# Altium footprint library Board2Wire Components - 02.02.23 - 18.32.PcbLib: 1 footprints
Each footprint in its own frame and in the unit in brackets; x right, y up, seen from the top. Pads: shape width x height; smd on the part's side, far side on the other; paste and mask are expansions set on the pad; w line width, h text height; cw(c..) or ccw(c..) is an arc to the next point about the centre after c.
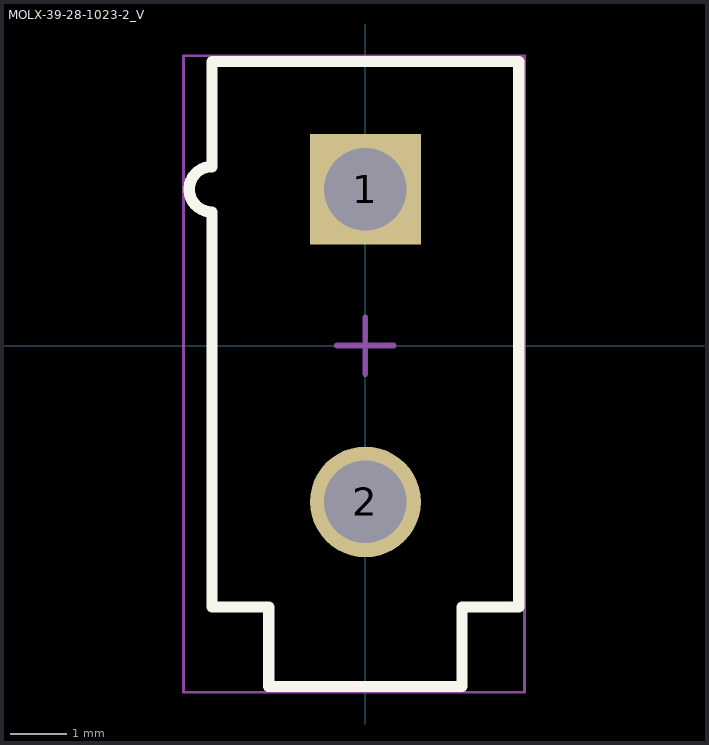
[diagram p0: the footprint, top view; thin cyan lines are the x and y axes]

## MOLX-39-28-1023-2_V [mm] "THD, 2-Leads, Body 11x5.8mm"
height 13.6
pads (2):
  rect 1.95x1.95 hole 1.45: 1(0,2.75)
  round 1.95 hole 1.45: 2(0,-2.75)
Top Overlay:
  lines w0.2: -2.7,-4.6 -2.7,2.35 cw(c-2.7,2.75) -2.7,3.15 -2.7,5 2.7,5 2.7,-4.6 1.7,-4.6 1.7,-6 -1.7,-6 -1.7,-4.6 -2.7,-4.6
Mechanical 13:
  lines w0.1: -2.7,-4.6 -1.7,-4.6 -1.7,-6 1.7,-6 1.7,-4.6 2.7,-4.6 2.7,5 -2.7,5 -2.7,3.15 ccw(c-2.7,2.75) -2.7,2.35 -2.7,-4.6
Mechanical 15:
  lines w0.05: -3.2,-6.1 -3.2,5.1 2.8,5.1 2.8,-6.1 -3.2,-6.1
  lines w0.1: -0.5,0 0.5,0 ; 0,-0.5 0,0.5
3D body: height 5, standoff 0.8, extent -2.7,-4.6 2.7,5
3D body: height 13.6, standoff 5, extent -2.7,4.6 2.7,5
3D body: height 13.6, standoff 10.6, extent -1.7,-6 1.7,-4.6
3D body: height 13.6, standoff 5, extent -2.7,-4.599 2.699,4.6
3D body: height 13.6, standoff 0.8, extent -3.101,2.349 -2.7,3.151
3D body: height 13.6, standoff 5, extent -2.1,-0.3 2.1,0.3
3D body: height 9, standoff -4, extent -0.496,2.251 0.5,3.249
3D body: height 9, standoff -4, extent -0.496,-3.249 0.5,-2.251
3D body: height 9, standoff -4, extent -0.496,-3.249 0.5,-2.251